# Altium schematic symbol library Connectors.SchLib: 13 symbols
Pins are listed as number, name and electrical type; pins without a type are passive.

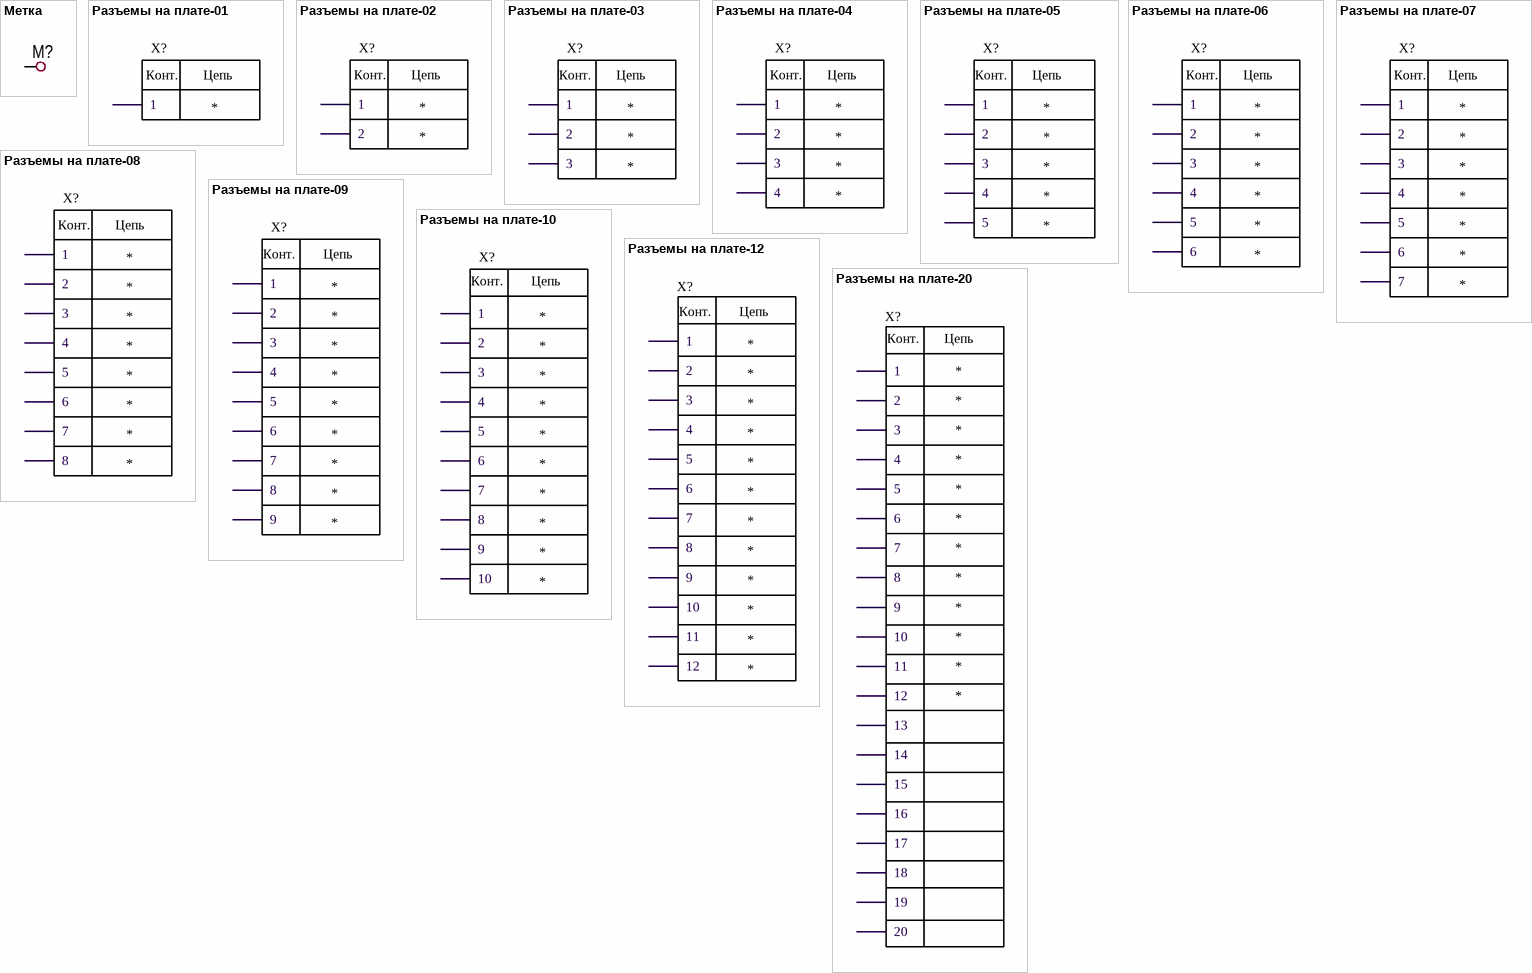
[diagram p0: symbols Метка to Разъемы на плате-20]

## Метка
designator M?  (value not drawn)
footprint Metka
pins: 1

## Разъемы на плате-01
designator X?
Name: Разъем; Value: *; Конт.1: *
footprint Metka
pins: 1 "Вход"
text: Конт.; Цепь

## Разъемы на плате-02
designator X?
Name: Разъем; Value: *; Конт.1: *; Конт.2: *
footprint B2B-PH-SM-TB Top
footprint BM02B-PASS
footprint 172065-0002
footprint 5566-02B2
footprint B2B-XH-AM
footprint 42819-2223
footprint PLS-2 (DS-1021-1x2)
footprint CWF-2
footprint 2-width_1
footprint 2-width_2
footprint 10147606-00002LF
footprint ME 030-508 02
footprint DG136T-10.16-02P-1Y
pins: 1 "Вход", 2 "Вход"
text: Конт.; Цепь

## Разъемы на плате-03
designator X?
Name: Разъем; Value: *; Конт.1: *; Конт.2: *; Конт.3: *
footprint B3B-PH-SM-TB Top
footprint BM03B-PASS
footprint 42819-3223
footprint PLS-3 (DS-1021-1x3)
footprint B3B-XH-AM
footprint CWF-3
footprint 3-width_1
footprint 10147606-00003LF
footprint ME 030-508 03
footprint DG136T-10.16-03P-1Y
pins: 1 "Вход", 2 "Вход", 3 "Вход"
text: Конт.; Цепь

## Разъемы на плате-04
designator X?
Name: Разъем; Value: *; Конт.1: *; Конт.2: *; Конт.3: *; Конт.4: *
footprint B4B-PH-SM-TB TOP
footprint BM04B-PASS
footprint DUKEP-04
footprint PLS-4 (DS-1021-1x4)
footprint 172065-0004
footprint B4B-XH-AM
footprint 42819-4223
footprint 5566-04B2 (39-29-9042)
footprint CWF-4
footprint 10147606-00004LF
footprint ME 030-508 04
footprint DG136T-10.16-04P-1Y
pins: 1 "Вход", 2 "Вход", 3 "Вход", 4 "Вход"
text: Конт.; Цепь

## Разъемы на плате-05
designator X?
Name: Разъем; Value: *; Конт.1: *; Конт.2: *; Конт.3: *; Конт.4: *; Конт.5: *
footprint B5B-PH-SM-TB Top
footprint BM05B-PASS
footprint B5B-XH-AM
footprint 42819-5223
footprint PLS-5 (DS-1021-1x5)
footprint CWF-5
footprint 10147606-00005LF
footprint ME 030-508 05
footprint DG136T-10.16-05P-1Y
pins: 1 "Вход", 2 "Вход", 3 "Вход", 4 "Вход", 5 "Вход"
text: Конт.; Цепь

## Разъемы на плате-06
designator X?
Name: Разъем; Value: *; Конт.1: *; Конт.2: *; Конт.3: *; Конт.4: *; Конт.5: *; Конт.6: *
footprint B6B-PH-SM-TB TOP
footprint BM06B-PASS
footprint 172065-0006
footprint 42819-6223
footprint PLS-6 (DS-1021-1x6)
footprint 5566-06B2 (39-29-9062)
footprint B6B-XH-AM
footprint CWF-6
footprint 10147606-00006LF
footprint ME 030-508 06
footprint DG136T-10.16-06P-1Y
pins: 1 "Вход", 2 "Вход", 3 "Вход", 4 "Вход", 5 "Вход", 6 "Вход"
text: Конт.; Цепь

## Разъемы на плате-07
designator X?
Name: Разъем; Value: *; Конт.1: *; Конт.2: *; Конт.3: *; Конт.4: *; Конт.5: *; Конт.6: *; Конт.7: *
footprint B7B-PH-SM-TB TOP
footprint BM07B-PASS
footprint B7B-XH-AM
footprint PLS-7 (DS-1021-1x7)
footprint CWF-7
footprint 10147606-00007LF
footprint DG136T-10.16-07P-1Y
pins: 1 "Вход", 2 "Вход", 3 "Вход", 4 "Вход", 5 "Вход", 6 "Вход", 7 "Вход"
text: Конт.; Цепь

## Разъемы на плате-08
designator X?
Name: Разъем; Value: *; Конт.1: *; Конт.2: *; Конт.3: *; Конт.4: *; Конт.5: *; Конт.6: *; Конт.7: *; Конт.8: *
footprint B8B-PH-SM-TB TOP
footprint BM08B-PASS
footprint B8B-XH-AM
footprint 172065-0008
footprint PLS-8 (DS-1021-1x8)
footprint 5566-08B2 (39-29-9082)
footprint CWF-8
footprint 10147606-00008LF
footprint ME 030-508 08
footprint DG136T-10.16-08P-1Y
pins: 1 "Вход", 2 "Вход", 3 "Вход", 4 "Вход", 5 "Вход", 6 "Вход", 7 "Вход", 8 "Вход"
text: Конт.; Цепь

## Разъемы на плате-09
designator X?
Name: Разъем; Value: *; Конт.1: *; Конт.2: *; Конт.3: *; Конт.4: *; Конт.5: *; Конт.6: *; Конт.7: *; Конт.8: *; Конт.9: *
footprint B9B-PH-SM-TB TOP
footprint BM09B-PASS
footprint B9B-XH-AM
footprint PLS-9 (DS-1021-1x9)
footprint CWF-9
footprint 10147606-00009LF
pins: 1 "Вход", 2 "Вход", 3 "Вход", 4 "Вход", 5 "Вход", 6 "Вход", 7 "Вход", 8 "Вход", 9 "Вход"
text: Конт.; Цепь

## Разъемы на плате-10
designator X?
Name: Разъем; Case: *; HelpURL: *; Manufacture: *; Model: *; Value: *; Конт.10: *; Конт.1: *; Конт.2: *; Конт.3: *; Конт.4: *; Конт.5: *; Конт.6: *; Конт.7: *; Конт.8: *; Конт.9: *
footprint BH-10 (DS1013-10S)
footprint B10B-PH-SM-TB TOP
footprint BM10B-PASS
footprint B10B-XH-AM
footprint 172065-0010
footprint PLS-10 (DS-1021-1x10)
footprint 5566-10B2 (39-29-9102)
footprint CWF-10
footprint 10147606-00010LF
pins: 1 "Вход", 2 "Вход", 3 "Вход", 4 "Вход", 5 "Вход", 6 "Вход", 7 "Вход", 8 "Вход", 9 "Вход", 10 "Вход"
text: Конт.; Цепь

## Разъемы на плате-12
designator X?
Name: Разъем; Case: *; Manufacture: *; HelpURL: *; Model: *; Value: *; Конт.11: *; Конт.1: *; Конт.10: *; Конт.2: *; Конт.4: *; Конт.3: *; Конт.5: *; Конт.8: *; Конт.6: *; Конт.7: *; Конт.9: *; Конт.12: *
footprint 172065-0012
footprint B12B-XH-AM
footprint PLS-12 (DS-1021-1x12)
footprint 5566-12B2 (39-29-9122)
footprint CWF-12
footprint 10147606-00012LF
pins: 1 "Вход", 2 "Вход", 3 "Вход", 4 "Вход", 5 "Вход", 6 "Вход", 7 "Вход", 8 "Вход", 9 "Вход", 10 "Вход", 11 "Вход", 12 "Вход"
text: Конт.; Цепь

## Разъемы на плате-20
designator X?
Name: Разъем; Case: *; Manufacture: *; HelpURL: *; Model: *; Value: *; Конт.11: *; Конт.1: *; Конт.10: *; Конт.2: *; Конт.4: *; Конт.3: *; Конт.5: *; Конт.8: *; Конт.6: *; Конт.7: *; Конт.9: *; Конт.12: *
footprint PLS-20 (DS-1021-1x20)
footprint 10147606-00020LF
pins: 1 "Вход", 2 "Вход", 3 "Вход", 4 "Вход", 5 "Вход", 6 "Вход", 7 "Вход", 8 "Вход", 9 "Вход", 10 "Вход", 11 "Вход", 12 "Вход", 13 "Вход", 14 "Вход", 15 "Вход", 16 "Вход", 17 "Вход", 18 "Вход", 19 "Вход", 20 "Вход"
text: Конт.; Цепь